# Altium integrated library Motorola Communication Telephone Circuit.IntLib: 17 symbols
Pins are listed as number, name and electrical type; pins without a type are passive.

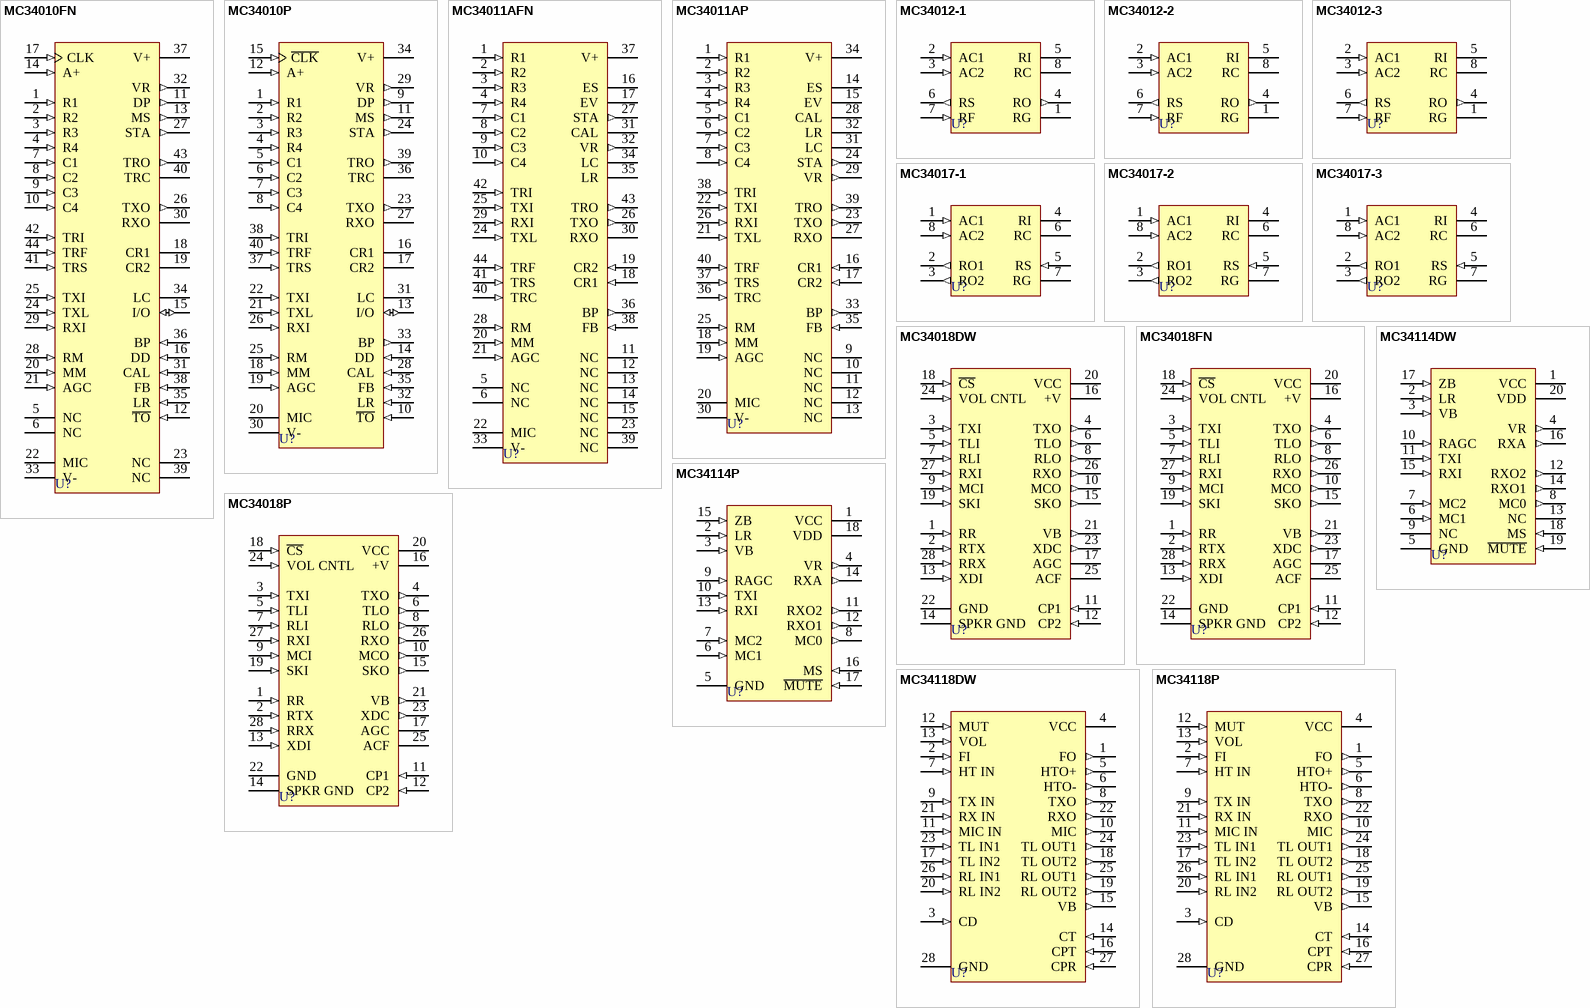
[diagram p0: symbols MC34010FN to MC34118P]

## MC34010FN
designator U?
Electronic Telephone Circuit; Published: 17-Jul-2002; LatestRevisionDate: 13-Apr-2006; LatestRevisionNote: IPC-7351 Footprint Added.; DatasheetVersion: 1989; PackageVersion: rev3, Feb-2002; PackageReference: 777-02; Publisher: Altium Limited; PackageDescription: 44-Pin Plastic Leaded Chip Carrier 1.27 mm Pitch
footprint 777-02_N (Leaded Chip Carrier, 44-Leads, Body 16.6x16.6mm, Pitch 1.27mm, IPC Medium Density)
footprint 777-02_L (Leaded Chip Carrier, 44-Leads, Body 16.6x16.6mm, Pitch 1.27mm, IPC High Density)
footprint 777-02_M (Leaded Chip Carrier, 44-Leads, Body 16.6x16.6mm, Pitch 1.27mm, IPC Low Density)
3D model MC34010-777-02 (44-Pin Plastic Leaded Chip Carrier 1.27 mm Pitch)
pins: 1 R1 (in), 2 R2 (in), 3 R3 (in), 4 R4 (in), 5 NC, 6 NC, 7 C1 (in), 8 C2 (in), 9 C3 (in), 10 C4 (in), 11 DP (out), 12 ~{TO} (in), 13 MS (out), 14 A+ (in), 15 I/O (io), 16 DD (in), 17 CLK (in), 18 CR1, 19 CR2, 20 MM (in), 21 AGC (in), 22 MIC (power), 23 NC, 24 TXL (in), 25 TXI (in), 26 TXO (out), 27 STA (out), 28 RM (in), 29 RXI (in), 30 RXO (oc), 31 CAL (in), 32 VR (out), 33 V- (power), 34 LC, 35 LR (in), 36 BP (in), 37 V+ (power), 38 FB (in), 39 NC, 40 TRC, 41 TRS (in), 42 TRI (in), 43 TRO (out), 44 TRF (in)

## MC34010P
designator U?
Electronic Telephone Circuit; Published: 17-Jul-2002; LatestRevisionDate: 06-Jun-2005; LatestRevisionNote: Stylized 3D Model Added.; DatasheetVersion: 1989; PackageReference: 711-03; Publisher: Altium Limited; PackageDescription: DIP; 40 Leads; Row Spacing 15.24 mm; Pitch 2.54 mm
footprint 711-03 (DIP; 40 Leads; Row Spacing 15.24 mm; Pitch 2.54 mm)
3D model 711-03 (DIP; 40 Leads; Row Spacing 15.24 mm; Pitch 2.54 mm)
pins: 1 R1 (in), 2 R2 (in), 3 R3 (in), 4 R4 (in), 5 C1 (in), 6 C2 (in), 7 C3 (in), 8 C4 (in), 9 DP (out), 10 ~{TO} (in), 11 MS (out), 12 A+ (in), 13 I/O (io), 14 DD (in), 15 ~{CLK} (in), 16 CR1, 17 CR2, 18 MM (in), 19 AGC (in), 20 MIC (power), 21 TXL (in), 22 TXI (in), 23 TXO (out), 24 STA (out), 25 RM (in), 26 RXI (in), 27 RXO (oc), 28 CAL (in), 29 VR (out), 30 V- (power), 31 LC, 32 LR (in), 33 BP (out), 34 V+ (power), 35 FB (in), 36 TRC, 37 TRS (in), 38 TRI (in), 39 TRO (out), 40 TRF (in)

## MC34011AFN
designator U?
Electronic Telephone Circuit; Published: 17-Jul-2002; LatestRevisionDate: 13-Apr-2006; LatestRevisionNote: IPC-7351 Footprint Added.; DatasheetVersion: 1989; PackageVersion: rev3, Feb-2002; PackageReference: 777-02; Publisher: Altium Limited; PackageDescription: 44-Pin Plastic Leaded Chip Carrier 1.27 mm Pitch
footprint 777-02_N (Leaded Chip Carrier, 44-Leads, Body 16.6x16.6mm, Pitch 1.27mm, IPC Medium Density)
footprint 777-02_L (Leaded Chip Carrier, 44-Leads, Body 16.6x16.6mm, Pitch 1.27mm, IPC High Density)
footprint 777-02_M (Leaded Chip Carrier, 44-Leads, Body 16.6x16.6mm, Pitch 1.27mm, IPC Low Density)
3D model MC34011A-777-02 (44-Pin Plastic Leaded Chip Carrier 1.27 mm Pitch)
pins: 1 R1 (in), 2 R2 (in), 3 R3 (in), 4 R4 (in), 5 NC, 6 NC, 7 C1 (in), 8 C2 (in), 9 C3 (in), 10 C4 (in), 11 NC, 12 NC, 13 NC, 14 NC, 15 NC, 16 ES, 17 EV, 18 CR1 (in), 19 CR2 (in), 20 MM (in), 21 AGC (in), 22 MIC (power), 23 NC, 24 TXL (in), 25 TXI (in), 26 TXO (out), 27 STA (out), 28 RM (in), 29 RXI (in), 30 RXO (oc), 31 CAL, 32 VR (out), 33 V- (power), 34 LC, 35 LR, 36 BP (out), 37 V+ (power), 38 FB (in), 39 NC, 40 TRC (in), 41 TRS (in), 42 TRI (in), 43 TRO (out), 44 TRF (in)

## MC34011AP
designator U?
Electronic Telephone Circuit; Published: 17-Jul-2002; LatestRevisionDate: 06-Jun-2005; LatestRevisionNote: Stylized 3D Model Added.; DatasheetVersion: 1989; PackageReference: 711-03; Publisher: Altium Limited; PackageDescription: DIP; 40 Leads; Row Spacing 15.24 mm; Pitch 2.54 mm
footprint 711-03 (DIP; 40 Leads; Row Spacing 15.24 mm; Pitch 2.54 mm)
3D model 711-03 (DIP; 40 Leads; Row Spacing 15.24 mm; Pitch 2.54 mm)
pins: 1 R1 (in), 2 R2 (in), 3 R3 (in), 4 R4 (in), 5 C1 (in), 6 C2 (in), 7 C3 (in), 8 C4 (in), 9 NC, 10 NC, 11 NC, 12 NC, 13 NC, 14 ES, 15 EV, 16 CR1 (in), 17 CR2 (in), 18 MM (in), 19 AGC (in), 20 MIC (power), 21 TXL (in), 22 TXI (in), 23 TXO (out), 24 STA (out), 25 RM (in), 26 RXI (in), 27 RXO (oc), 28 CAL, 29 VR (out), 30 V- (power), 31 LC, 32 LR, 33 BP (out), 34 V+ (power), 35 FB (in), 36 TRC (in), 37 TRS (in), 38 TRI (in), 39 TRO (out), 40 TRF (in)

## MC34012-1
designator U?
Telephone Tone Ringer; Published: 17-Jul-2002; LatestRevisionDate: 06-Jun-2005; LatestRevisionNote: Stylized 3D Model Added.; DatasheetVersion: 1989; PackageReference: 626-05; Publisher: Altium Limited; PackageDescription: DIP; 8 Leads; Row Spacing 7.62 mm; Pitch 2.54 mm
footprint 626-05 (DIP; 8 Leads; Row Spacing 7.62 mm; Pitch 2.54 mm)
3D model 626-05 (DIP; 8 Leads; Row Spacing 7.62 mm; Pitch 2.54 mm)
pins: 1 RG (power), 2 AC1 (in), 3 AC2 (in), 4 RO (out), 5 RI (power), 6 RS (out), 7 RF (in), 8 RC

## MC34012-2
designator U?
Telephone Tone Ringer; Published: 17-Jul-2002; LatestRevisionDate: 06-Jun-2005; LatestRevisionNote: Stylized 3D Model Added.; DatasheetVersion: 1989; PackageReference: 626-05; Publisher: Altium Limited; PackageDescription: DIP; 8 Leads; Row Spacing 7.62 mm; Pitch 2.54 mm
footprint 626-05 (DIP; 8 Leads; Row Spacing 7.62 mm; Pitch 2.54 mm)
3D model 626-05 (DIP; 8 Leads; Row Spacing 7.62 mm; Pitch 2.54 mm)
pins: 1 RG (power), 2 AC1 (in), 3 AC2 (in), 4 RO (out), 5 RI (power), 6 RS (out), 7 RF (in), 8 RC

## MC34012-3
designator U?
Telephone Tone Ringer; Published: 17-Jul-2002; LatestRevisionDate: 06-Jun-2005; LatestRevisionNote: Stylized 3D Model Added.; DatasheetVersion: 1989; PackageReference: 626-05; Publisher: Altium Limited; PackageDescription: DIP; 8 Leads; Row Spacing 7.62 mm; Pitch 2.54 mm
footprint 626-05 (DIP; 8 Leads; Row Spacing 7.62 mm; Pitch 2.54 mm)
3D model 626-05 (DIP; 8 Leads; Row Spacing 7.62 mm; Pitch 2.54 mm)
pins: 1 RG (power), 2 AC1 (in), 3 AC2 (in), 4 RO (out), 5 RI (power), 6 RS (out), 7 RF (in), 8 RC

## MC34017-1
designator U?
Telephone Tone Ringer; Published: 17-Jul-2002; LatestRevisionDate: 06-Jun-2005; LatestRevisionNote: Stylized 3D Model Added.; DatasheetVersion: 1989; PackageReference: 626-04; Publisher: Altium Limited; PackageDescription: DIP; 8 Leads; Row Spacing 7.62 mm; Pitch 2.54 mm
footprint 626-04 (DIP; 8 Leads; Row Spacing 7.62 mm; Pitch 2.54 mm)
3D model 626-05 (DIP; 8 Leads; Row Spacing 7.62 mm; Pitch 2.54 mm)
pins: 1 AC1 (in), 2 RO1 (out), 3 RO2 (out), 4 RI (power), 5 RS (in), 6 RC, 7 RG (power), 8 AC2 (in)

## MC34017-2
designator U?
Telephone Tone Ringer; Published: 17-Jul-2002; LatestRevisionDate: 06-Jun-2005; LatestRevisionNote: Stylized 3D Model Added.; DatasheetVersion: 1989; PackageReference: 626-04; Publisher: Altium Limited; PackageDescription: DIP; 8 Leads; Row Spacing 7.62 mm; Pitch 2.54 mm
footprint 626-04 (DIP; 8 Leads; Row Spacing 7.62 mm; Pitch 2.54 mm)
3D model 626-05 (DIP; 8 Leads; Row Spacing 7.62 mm; Pitch 2.54 mm)
pins: 1 AC1 (in), 2 RO1 (out), 3 RO2 (out), 4 RI (power), 5 RS (in), 6 RC, 7 RG (power), 8 AC2 (in)

## MC34017-3
designator U?
Telephone Tone Ringer; Published: 17-Jul-2002; LatestRevisionDate: 06-Jun-2005; LatestRevisionNote: Stylized 3D Model Added.; DatasheetVersion: 1989; PackageReference: 626-04; Publisher: Altium Limited; PackageDescription: DIP; 8 Leads; Row Spacing 7.62 mm; Pitch 2.54 mm
footprint 626-04 (DIP; 8 Leads; Row Spacing 7.62 mm; Pitch 2.54 mm)
3D model 626-05 (DIP; 8 Leads; Row Spacing 7.62 mm; Pitch 2.54 mm)
pins: 1 AC1 (in), 2 RO1 (out), 3 RO2 (out), 4 RI (power), 5 RS (in), 6 RC, 7 RG (power), 8 AC2 (in)

## MC34018DW
designator U?
Voice-Switched Speaker Phone Circuit; Published: 17-Jul-2002; LatestRevisionDate: 13-Apr-2006; LatestRevisionNote: IPC-7351 Footprint Added.; DatasheetVersion: 1989; PackageReference: 751F-03; Publisher: Altium Limited; PackageDescription: 28-Pin Small Outline Integrated Circuit 1.27 mm Pitch
footprint 751F-03_N (SOIC, 28-Leads, Body 17.9x7.5mm, Pitch 1.27mm, IPC Medium Density)
footprint 751F-03_L (SOIC, 28-Leads, Body 17.9x7.5mm, Pitch 1.27mm, IPC High Density)
footprint 751F-03_M (SOIC, 28-Leads, Body 17.9x7.5mm, Pitch 1.27mm, IPC Low Density)
3D model 751F-03 (28-Pin Small Outline Integrated Circuit 1.27 mm Pitch)
pins: 1 RR (in), 2 RTX (in), 3 TXI (in), 4 TXO (out), 5 TLI (in), 6 TLO (out), 7 RLI (in), 8 RLO (out), 9 MCI (in), 10 MCO (out), 11 CP1 (in), 12 CP2 (in), 13 XDI (in), 14 SPKR GND (power), 15 SKO (out), 16 +V (power), 17 AGC, 18 ~{CS} (in), 19 SKI (in), 20 VCC (power), 21 VB (out), 22 GND (power), 23 XDC (out), 24 VOL CNTL (in), 25 ACF, 26 RXO (out), 27 RXI (in), 28 RRX (in)

## MC34018FN
designator U?
Voice-Switched Speaker Phone Circuit; Published: 17-Jul-2002; LatestRevisionDate: 13-Apr-2006; LatestRevisionNote: IPC-7351 Footprint Added.; DatasheetVersion: 1989; PackageReference: 776-02; Publisher: Altium Limited; PackageDescription: 28-Pin Leaded Chip Carrier 1.27 mm Pitch
footprint 776-02_N (Leaded Chip Carrier, 28-Leads, Body 11.5x11.5mm, Pitch 1.27mm, IPC Medium Density)
footprint 776-02_L (Leaded Chip Carrier, 28-Leads, Body 11.5x11.5mm, Pitch 1.27mm, IPC High Density)
footprint 776-02_M (Leaded Chip Carrier, 28-Leads, Body 11.5x11.5mm, Pitch 1.27mm, IPC Low Density)
3D model MC34018-776-02 (28-Pin Leaded Chip Carrier 1.27 mm Pitch)
pins: 1 RR (in), 2 RTX (in), 3 TXI (in), 4 TXO (out), 5 TLI (in), 6 TLO (out), 7 RLI (in), 8 RLO (out), 9 MCI (in), 10 MCO (out), 11 CP1 (in), 12 CP2 (in), 13 XDI (in), 14 SPKR GND (power), 15 SKO (out), 16 +V (power), 17 AGC, 18 ~{CS} (in), 19 SKI (in), 20 VCC (power), 21 VB (out), 22 GND (power), 23 XDC (out), 24 VOL CNTL (in), 25 ACF, 26 RXO (out), 27 RXI (in), 28 RRX (in)

## MC34018P
designator U?
Voice-Switched Speaker Phone Circuit; Published: 17-Jul-2002; LatestRevisionDate: 06-Jun-2005; LatestRevisionNote: Stylized 3D Model Added.; DatasheetVersion: 1989; PackageReference: 710-02; Publisher: Altium Limited; PackageDescription: DIP; 28 Leads; Row Spacing 15.24 mm; Pitch 2.54 mm
footprint 710-02 (DIP; 28 Leads; Row Spacing 15.24 mm; Pitch 2.54 mm)
3D model 710-02 (DIP; 28 Leads; Row Spacing 15.24 mm; Pitch 2.54 mm)
pins: 1 RR (in), 2 RTX (in), 3 TXI (in), 4 TXO (out), 5 TLI (in), 6 TLO (out), 7 RLI (in), 8 RLO (out), 9 MCI (in), 10 MCO (out), 11 CP1 (in), 12 CP2 (in), 13 XDI (in), 14 SPKR GND (power), 15 SKO (out), 16 +V (power), 17 AGC, 18 ~{CS} (in), 19 SKI (in), 20 VCC (power), 21 VB (out), 22 GND (power), 23 XDC (out), 24 VOL CNTL (in), 25 ACF, 26 RXO (out), 27 RXI (in), 28 RRX (in)

## MC34114DW
designator U?
Telephone Speech Network with Dialer Interface; Published: 17-Jul-2002; LatestRevisionDate: 13-Apr-2006; LatestRevisionNote: IPC-7351 Footprint Added.; DatasheetVersion: 1989; PackageReference: 751D-03; Publisher: Altium Limited; PackageDescription: 20-Pin Small Outline Integrated Circuit 1.27 mm Pitch
footprint 751D-03_N (SOIC, 20-Leads, Body 12.8x7.5mm, Pitch 1.27mm, IPC Medium Density)
footprint 751D-03_L (SOIC, 20-Leads, Body 12.8x7.5mm, Pitch 1.27mm, IPC High Density)
footprint 751D-03_M (SOIC, 20-Leads, Body 12.8x7.5mm, Pitch 1.27mm, IPC Low Density)
3D model 751D-03 (20-Pin Small Outline Integrated Circuit 1.27 mm Pitch)
pins: 1 VCC (power), 2 LR (in), 3 VB (in), 4 VR (out), 5 GND (power), 6 MC1 (in), 7 MC2 (in), 8 MC0 (out), 9 NC, 10 RAGC (in), 11 TXI (in), 12 RXO2 (out), 13 NC, 14 RXO1 (out), 15 RXI (in), 16 RXA (out), 17 ZB (in), 18 MS (in), 19 ~{MUTE} (in), 20 VDD (power)

## MC34114P
designator U?
Telephone Speech Network with Dialer Interface; Published: 17-Jul-2002; LatestRevisionDate: 06-Jun-2005; LatestRevisionNote: Stylized 3D Model Added.; DatasheetVersion: 1989; PackageReference: 707-02; Publisher: Altium Limited; PackageDescription: DIP; 18 Leads; Row Spacing 7.62 mm; Pitch 2.54 mm
footprint 707-02 (DIP; 18 Leads; Row Spacing 7.62 mm; Pitch 2.54 mm)
3D model 707-02 (DIP; 18 Leads; Row Spacing 7.62 mm; Pitch 2.54 mm)
pins: 1 VCC (power), 2 LR (in), 3 VB (in), 4 VR (out), 5 GND (power), 6 MC1 (in), 7 MC2 (in), 8 MC0 (out), 9 RAGC (in), 10 TXI (in), 11 RXO2 (out), 12 RXO1 (out), 13 RXI (in), 14 RXA (out), 15 ZB (in), 16 MS (in), 17 ~{MUTE} (in), 18 VDD (power)

## MC34118DW
designator U?
Voice-Switched Speaker Phone Circuit; Published: 17-Jul-2002; LatestRevisionDate: 13-Apr-2006; LatestRevisionNote: IPC-7351 Footprint Added.; DatasheetVersion: 1989; PackageReference: 751F-03; Publisher: Altium Limited; PackageDescription: 28-Pin Small Outline Integrated Circuit 1.27 mm Pitch
footprint 751F-03_N (SOIC, 28-Leads, Body 17.9x7.5mm, Pitch 1.27mm, IPC Medium Density)
footprint 751F-03_L (SOIC, 28-Leads, Body 17.9x7.5mm, Pitch 1.27mm, IPC High Density)
footprint 751F-03_M (SOIC, 28-Leads, Body 17.9x7.5mm, Pitch 1.27mm, IPC Low Density)
3D model 751F-03 (28-Pin Small Outline Integrated Circuit 1.27 mm Pitch)
pins: 1 FO (out), 2 FI (in), 3 CD (in), 4 VCC (power), 5 HTO+ (out), 6 HTO- (out), 7 HT IN (in), 8 TXO (out), 9 TX IN (in), 10 MIC (out), 11 MIC IN (in), 12 MUT (in), 13 VOL (in), 14 CT (in), 15 VB (out), 16 CPT (in), 17 TL IN2 (in), 18 TL OUT2 (out), 19 RL OUT2 (out), 20 RL IN2 (in), 21 RX IN (in), 22 RXO (out), 23 TL IN1 (in), 24 TL OUT1 (out), 25 RL OUT1 (out), 26 RL IN1 (in), 27 CPR (in), 28 GND (power)

## MC34118P
designator U?
Voice-Switched Speaker Phone Circuit; Published: 17-Jul-2002; LatestRevisionDate: 06-Jun-2005; LatestRevisionNote: Stylized 3D Model Added.; DatasheetVersion: 1989; PackageReference: 710-02; Publisher: Altium Limited; PackageDescription: DIP; 28 Leads; Row Spacing 15.24 mm; Pitch 2.54 mm
footprint 710-02 (DIP; 28 Leads; Row Spacing 15.24 mm; Pitch 2.54 mm)
3D model 710-02 (DIP; 28 Leads; Row Spacing 15.24 mm; Pitch 2.54 mm)
pins: 1 FO (out), 2 FI (in), 3 CD (in), 4 VCC (power), 5 HTO+ (out), 6 HTO- (out), 7 HT IN (in), 8 TXO (out), 9 TX IN (in), 10 MIC (out), 11 MIC IN (in), 12 MUT (in), 13 VOL (in), 14 CT (in), 15 VB (out), 16 CPT (in), 17 TL IN2 (in), 18 TL OUT2 (out), 19 RL OUT2 (out), 20 RL IN2 (in), 21 RX IN (in), 22 RXO (out), 23 TL IN1 (in), 24 TL OUT1 (out), 25 RL OUT1 (out), 26 RL IN1 (in), 27 CPR (in), 28 GND (power)